# Altium integrated library ISSI SRAM Synchronous SRAM No-Wait(ZBT).IntLib: 1246 symbols (part 74 of 152)
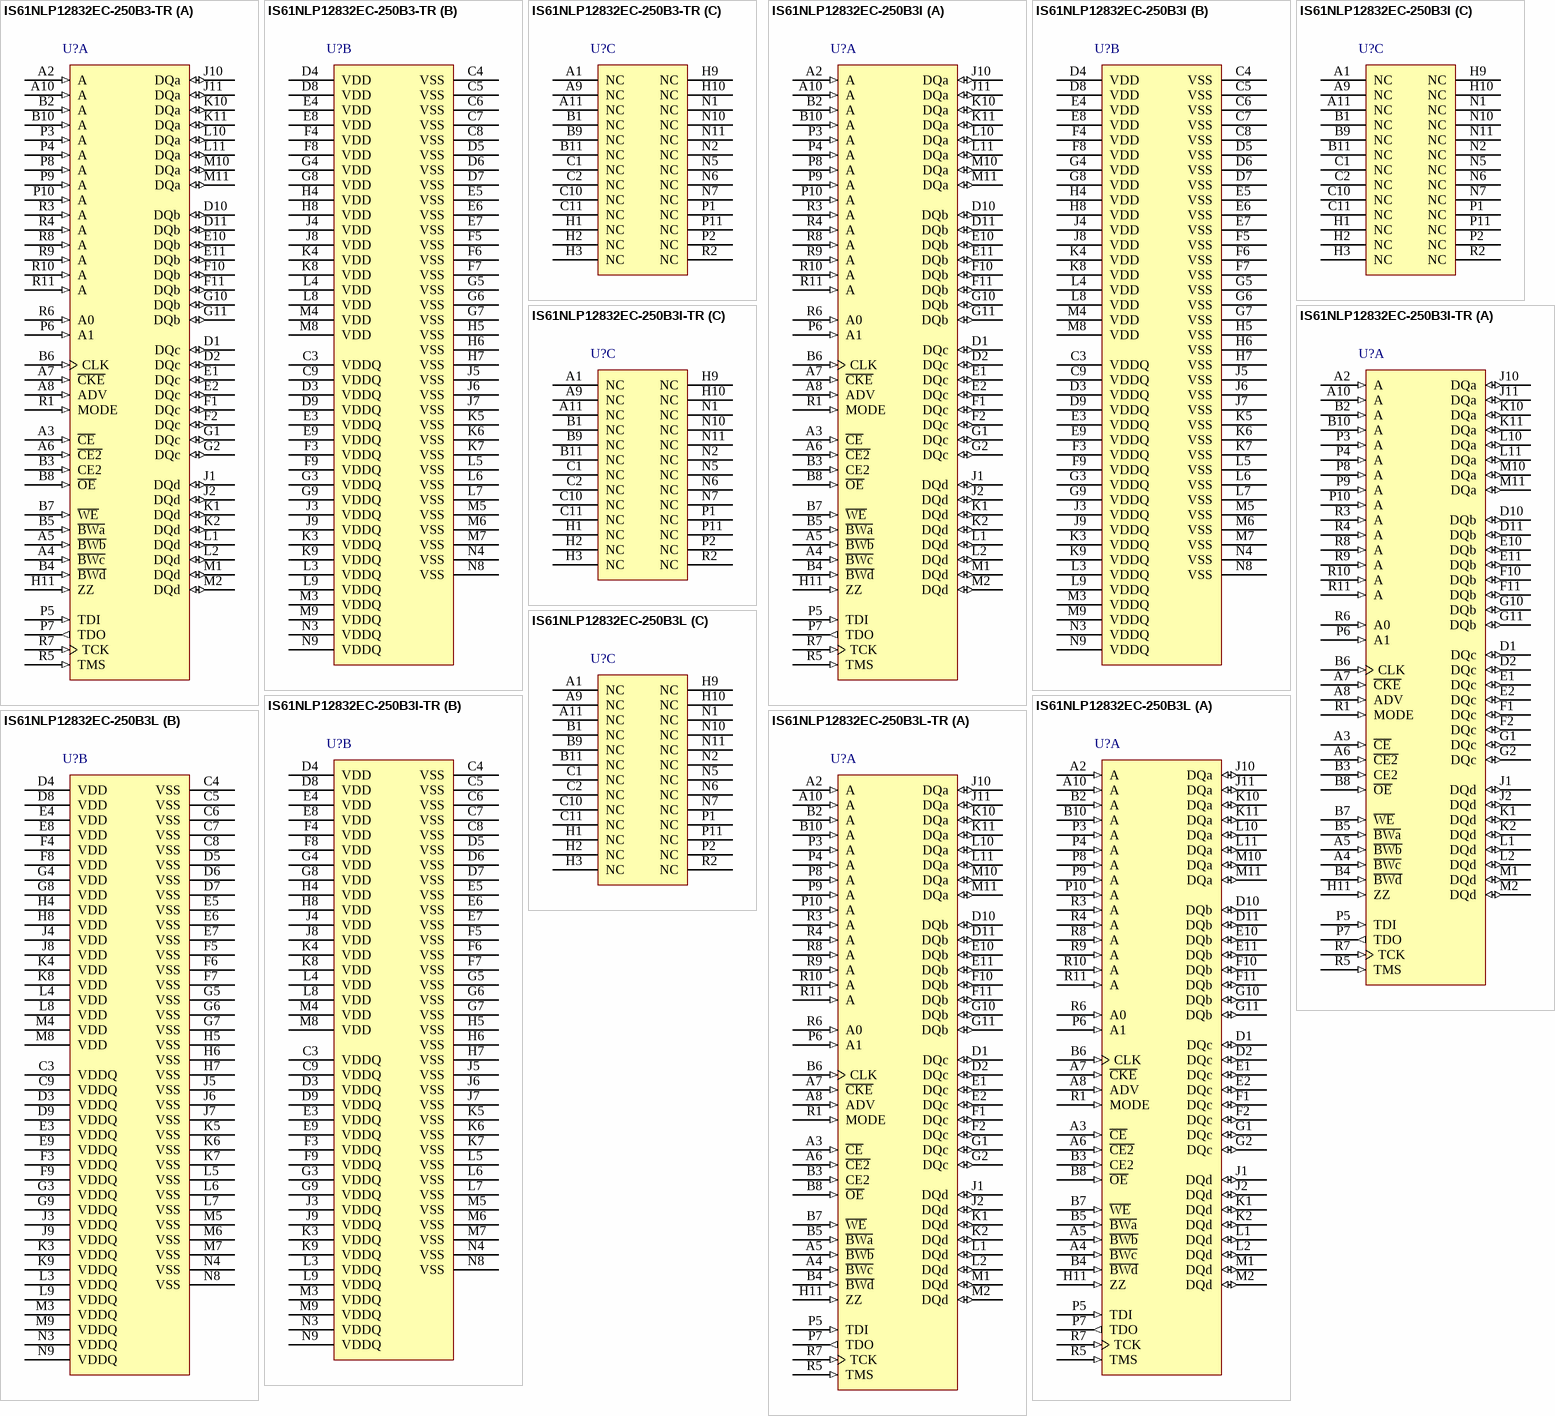
[diagram p275: symbols IS61NLP12832EC-250B3-TR to IS61NLP12832EC-250B3L-TR]

## IS61NLP12832EC-250B3I
designator U?
4 M Pipeline 'No Wait' State Bus Synchronous SRAM with ECC, 128 K x 32, -40 to 85 degC, 165-Pin BGA (TF-BGA-165); Manufacturer: Integrated Silicon Solution Inc (ISSI); PartNumber: IS61NLP12832EC-250B3I; Density: 4M; Packing: Tray / Tube; Vcc: 3.3 V; VccQ: 2.5 / 3.3 V; DatasheetVersion: Rev. A; PackageVersion: Rev. B, 08/2008; PackageReference: TF-BGA-165; PackageDescription: 165-Pin 13 x 15 mm TF-BGA, Pitch 1 mm; Organization: 128Kx32; Mounting Technology: Surface Mount; ComponentLink1Description: Manufacturer URL; ComponentLink1URL: http://www.issi.com/US/index.shtml; ComponentLink2Description: Datasheet; ComponentLink2URL: http://www.issi.com/WW/pdf/61-64NLP_NVP12832EC-12836EC-25618EC.pdf; ComponentLink3Description: Package Specification; ComponentLink3URL: http://www.issi.com/WW/pdf/61NLP_NVP25636A_51218A.pdf
footprint ISSI-TF-BGA-165-13000X15000DE (BGA, 165-Balls, Body 15x13mm, Pitch 1mm)
part A pins: A2 A (in) "Synchronous Address Inputs", A3 ~{CE} (in) "Synchronous Chip Enable", A4 ~{BWc} (in) "Synchronous Byte Write Inputs", A5 ~{BWb} (in) "Synchronous Byte Write Inputs", A6 ~{CE2} (in) "Synchronous Chip Enable", A7 ~{CKE} (in) "Clock Enable", A8 ADV (in) "Synchronous Advance/Load", A10 A (in) "Synchronous Address Inputs", B2 A (in) "Synchronous Address Inputs", B3 CE2 (in) "Synchronous Chip Enable", B4 ~{BWd} (in) "Synchronous Byte Write Inputs", B5 ~{BWa} (in) "Synchronous Byte Write Inputs", B6 CLK (in) "Synchronous Clock", B7 ~{WE} (in) "Synchronous Byte Write Enable", B8 ~{OE} (in) "Asynchronous Output Enable", B10 A (in) "Synchronous Address Inputs", D1 DQc (io) "Synchronous Data Inputs/Outputs", D2 DQc (io) "Synchronous Data Inputs/Outputs", D10 DQb (io) "Synchronous Data Inputs/Outputs", D11 DQb (io) "Synchronous Data Inputs/Outputs", E1 DQc (io) "Synchronous Data Inputs/Outputs", E2 DQc (io) "Synchronous Data Inputs/Outputs", E10 DQb (io) "Synchronous Data Inputs/Outputs", E11 DQb (io) "Synchronous Data Inputs/Outputs", F1 DQc (io) "Synchronous Data Inputs/Outputs", F2 DQc (io) "Synchronous Data Inputs/Outputs", F10 DQb (io) "Synchronous Data Inputs/Outputs", F11 DQb (io) "Synchronous Data Inputs/Outputs", G1 DQc (io) "Synchronous Data Inputs/Outputs", G2 DQc (io) "Synchronous Data Inputs/Outputs", G10 DQb (io) "Synchronous Data Inputs/Outputs", G11 DQb (io) "Synchronous Data Inputs/Outputs", H11 ZZ (in) "Asynchronous Power Sleep Mode", J1 DQd (io) "Synchronous Data Inputs/Outputs", J2 DQd (io) "Synchronous Data Inputs/Outputs", J10 DQa (io) "Synchronous Data Inputs/Outputs", J11 DQa (io) "Synchronous Data Inputs/Outputs", K1 DQd (io) "Synchronous Data Inputs/Outputs", K2 DQd (io) "Synchronous Data Inputs/Outputs", K10 DQa (io) "Synchronous Data Inputs/Outputs", K11 DQa (io) "Synchronous Data Inputs/Outputs", L1 DQd (io) "Synchronous Data Inputs/Outputs", L2 DQd (io) "Synchronous Data Inputs/Outputs", L10 DQa (io) "Synchronous Data Inputs/Outputs", L11 DQa (io) "Synchronous Data Inputs/Outputs", M1 DQd (io) "Synchronous Data Inputs/Outputs", M2 DQd (io) "Synchronous Data Inputs/Outputs", M10 DQa (io) "Synchronous Data Inputs/Outputs", M11 DQa (io) "Synchronous Data Inputs/Outputs", P3 A (in) "Synchronous Address Inputs", P4 A (in) "Synchronous Address Inputs", P5 TDI (in) "JTAG Pins", P6 A1 (in) "Synchronous Burst Address Inputs", P7 TDO (out) "JTAG Pins", P8 A (in) "Synchronous Address Inputs", P9 A (in) "Synchronous Address Inputs", P10 A (in) "Synchronous Address Inputs", R1 MODE (in) "Burst Sequence Selection", R3 A (in) "Synchronous Address Inputs", R4 A (in) "Synchronous Address Inputs", R5 TMS (in) "JTAG Pins", R6 A0 (in) "Synchronous Burst Address Inputs", R7 TCK (in) "JTAG Pins", R8 A (in) "Synchronous Address Inputs", R9 A (in) "Synchronous Address Inputs", R10 A (in) "Synchronous Address Inputs", R11 A (in) "Synchronous Address Inputs"
part B pins: C3 VDDQ (power) "I/O Power Supply", C4 VSS (power) "Ground", C5 VSS (power) "Ground", C6 VSS (power) "Ground", C7 VSS (power) "Ground", C8 VSS (power) "Ground", C9 VDDQ (power) "I/O Power Supply", D3 VDDQ (power) "I/O Power Supply", D4 VDD (power) "Power Supply", D5 VSS (power) "Ground", D6 VSS (power) "Ground", D7 VSS (power) "Ground", D8 VDD (power) "Power Supply", D9 VDDQ (power) "I/O Power Supply", E3 VDDQ (power) "I/O Power Supply", E4 VDD (power) "Power Supply", E5 VSS (power) "Ground", E6 VSS (power) "Ground", E7 VSS (power) "Ground", E8 VDD (power) "Power Supply", E9 VDDQ (power) "I/O Power Supply", F3 VDDQ (power) "I/O Power Supply", F4 VDD (power) "Power Supply", F5 VSS (power) "Ground", F6 VSS (power) "Ground", F7 VSS (power) "Ground", F8 VDD (power) "Power Supply", F9 VDDQ (power) "I/O Power Supply", G3 VDDQ (power) "I/O Power Supply", G4 VDD (power) "Power Supply", G5 VSS (power) "Ground", G6 VSS (power) "Ground", G7 VSS (power) "Ground", G8 VDD (power) "Power Supply", G9 VDDQ (power) "I/O Power Supply", H4 VDD (power) "Power Supply", H5 VSS (power) "Ground", H6 VSS (power) "Ground", H7 VSS (power) "Ground", H8 VDD (power) "Power Supply", J3 VDDQ (power) "I/O Power Supply", J4 VDD (power) "Power Supply", J5 VSS (power) "Ground", J6 VSS (power) "Ground", J7 VSS (power) "Ground", J8 VDD (power) "Power Supply", J9 VDDQ (power) "I/O Power Supply", K3 VDDQ (power) "I/O Power Supply", K4 VDD (power) "Power Supply", K5 VSS (power) "Ground", K6 VSS (power) "Ground", K7 VSS (power) "Ground", K8 VDD (power) "Power Supply", K9 VDDQ (power) "I/O Power Supply", L3 VDDQ (power) "I/O Power Supply", L4 VDD (power) "Power Supply", L5 VSS (power) "Ground", L6 VSS (power) "Ground", L7 VSS (power) "Ground", L8 VDD (power) "Power Supply", L9 VDDQ (power) "I/O Power Supply", M3 VDDQ (power) "I/O Power Supply", M4 VDD (power) "Power Supply", M5 VSS (power) "Ground", M6 VSS (power) "Ground", M7 VSS (power) "Ground", M8 VDD (power) "Power Supply", M9 VDDQ (power) "I/O Power Supply", N3 VDDQ (power) "I/O Power Supply", N4 VSS (power) "Ground", N8 VSS (power) "Ground", N9 VDDQ (power) "I/O Power Supply"
part C pins: A1 NC "No Connect", A9 NC "No Connect", A11 NC "No Connect", B1 NC "No Connect", B9 NC "No Connect", B11 NC "No Connect", C1 NC "No Connect", C2 NC "No Connect", C10 NC "No Connect", C11 NC "No Connect", H1 NC "No Connect", H2 NC "No Connect", H3 NC "No Connect", H9 NC "No Connect", H10 NC "No Connect", N1 NC "No Connect", N2 NC "No Connect", N5 NC "No Connect", N6 NC "No Connect", N7 NC "No Connect", N10 NC "No Connect", N11 NC "No Connect", P1 NC "No Connect", P2 NC "No Connect", P11 NC "No Connect", R2 NC "No Connect"

## IS61NLP12832EC-250B3I-TR
designator U?
4 M Pipeline 'No Wait' State Bus Synchronous SRAM with ECC, 128 K x 32, -40 to 85 degC, 165-Pin BGA (TF-BGA-165); Manufacturer: Integrated Silicon Solution Inc (ISSI); PartNumber: IS61NLP12832EC-250B3I-TR; Density: 4M; Packing: Tape & Reel; Vcc: 3.3 V; VccQ: 2.5 / 3.3 V; DatasheetVersion: Rev. A; PackageVersion: Rev. B, 08/2008; PackageReference: TF-BGA-165; PackageDescription: 165-Pin 13 x 15 mm TF-BGA, Pitch 1 mm; Organization: 128Kx32; Mounting Technology: Surface Mount; ComponentLink1Description: Manufacturer URL; ComponentLink1URL: http://www.issi.com/US/index.shtml; ComponentLink2Description: Datasheet; ComponentLink2URL: http://www.issi.com/WW/pdf/61-64NLP_NVP12832EC-12836EC-25618EC.pdf; ComponentLink3Description: Package Specification; ComponentLink3URL: http://www.issi.com/WW/pdf/61NLP_NVP25636A_51218A.pdf
footprint ISSI-TF-BGA-165-13000X15000DE (BGA, 165-Balls, Body 15x13mm, Pitch 1mm)
part A pins: A2 A (in) "Synchronous Address Inputs", A3 ~{CE} (in) "Synchronous Chip Enable", A4 ~{BWc} (in) "Synchronous Byte Write Inputs", A5 ~{BWb} (in) "Synchronous Byte Write Inputs", A6 ~{CE2} (in) "Synchronous Chip Enable", A7 ~{CKE} (in) "Clock Enable", A8 ADV (in) "Synchronous Advance/Load", A10 A (in) "Synchronous Address Inputs", B2 A (in) "Synchronous Address Inputs", B3 CE2 (in) "Synchronous Chip Enable", B4 ~{BWd} (in) "Synchronous Byte Write Inputs", B5 ~{BWa} (in) "Synchronous Byte Write Inputs", B6 CLK (in) "Synchronous Clock", B7 ~{WE} (in) "Synchronous Byte Write Enable", B8 ~{OE} (in) "Asynchronous Output Enable", B10 A (in) "Synchronous Address Inputs", D1 DQc (io) "Synchronous Data Inputs/Outputs", D2 DQc (io) "Synchronous Data Inputs/Outputs", D10 DQb (io) "Synchronous Data Inputs/Outputs", D11 DQb (io) "Synchronous Data Inputs/Outputs", E1 DQc (io) "Synchronous Data Inputs/Outputs", E2 DQc (io) "Synchronous Data Inputs/Outputs", E10 DQb (io) "Synchronous Data Inputs/Outputs", E11 DQb (io) "Synchronous Data Inputs/Outputs", F1 DQc (io) "Synchronous Data Inputs/Outputs", F2 DQc (io) "Synchronous Data Inputs/Outputs", F10 DQb (io) "Synchronous Data Inputs/Outputs", F11 DQb (io) "Synchronous Data Inputs/Outputs", G1 DQc (io) "Synchronous Data Inputs/Outputs", G2 DQc (io) "Synchronous Data Inputs/Outputs", G10 DQb (io) "Synchronous Data Inputs/Outputs", G11 DQb (io) "Synchronous Data Inputs/Outputs", H11 ZZ (in) "Asynchronous Power Sleep Mode", J1 DQd (io) "Synchronous Data Inputs/Outputs", J2 DQd (io) "Synchronous Data Inputs/Outputs", J10 DQa (io) "Synchronous Data Inputs/Outputs", J11 DQa (io) "Synchronous Data Inputs/Outputs", K1 DQd (io) "Synchronous Data Inputs/Outputs", K2 DQd (io) "Synchronous Data Inputs/Outputs", K10 DQa (io) "Synchronous Data Inputs/Outputs", K11 DQa (io) "Synchronous Data Inputs/Outputs", L1 DQd (io) "Synchronous Data Inputs/Outputs", L2 DQd (io) "Synchronous Data Inputs/Outputs", L10 DQa (io) "Synchronous Data Inputs/Outputs", L11 DQa (io) "Synchronous Data Inputs/Outputs", M1 DQd (io) "Synchronous Data Inputs/Outputs", M2 DQd (io) "Synchronous Data Inputs/Outputs", M10 DQa (io) "Synchronous Data Inputs/Outputs", M11 DQa (io) "Synchronous Data Inputs/Outputs", P3 A (in) "Synchronous Address Inputs", P4 A (in) "Synchronous Address Inputs", P5 TDI (in) "JTAG Pins", P6 A1 (in) "Synchronous Burst Address Inputs", P7 TDO (out) "JTAG Pins", P8 A (in) "Synchronous Address Inputs", P9 A (in) "Synchronous Address Inputs", P10 A (in) "Synchronous Address Inputs", R1 MODE (in) "Burst Sequence Selection", R3 A (in) "Synchronous Address Inputs", R4 A (in) "Synchronous Address Inputs", R5 TMS (in) "JTAG Pins", R6 A0 (in) "Synchronous Burst Address Inputs", R7 TCK (in) "JTAG Pins", R8 A (in) "Synchronous Address Inputs", R9 A (in) "Synchronous Address Inputs", R10 A (in) "Synchronous Address Inputs", R11 A (in) "Synchronous Address Inputs"
part B pins: C3 VDDQ (power) "I/O Power Supply", C4 VSS (power) "Ground", C5 VSS (power) "Ground", C6 VSS (power) "Ground", C7 VSS (power) "Ground", C8 VSS (power) "Ground", C9 VDDQ (power) "I/O Power Supply", D3 VDDQ (power) "I/O Power Supply", D4 VDD (power) "Power Supply", D5 VSS (power) "Ground", D6 VSS (power) "Ground", D7 VSS (power) "Ground", D8 VDD (power) "Power Supply", D9 VDDQ (power) "I/O Power Supply", E3 VDDQ (power) "I/O Power Supply", E4 VDD (power) "Power Supply", E5 VSS (power) "Ground", E6 VSS (power) "Ground", E7 VSS (power) "Ground", E8 VDD (power) "Power Supply", E9 VDDQ (power) "I/O Power Supply", F3 VDDQ (power) "I/O Power Supply", F4 VDD (power) "Power Supply", F5 VSS (power) "Ground", F6 VSS (power) "Ground", F7 VSS (power) "Ground", F8 VDD (power) "Power Supply", F9 VDDQ (power) "I/O Power Supply", G3 VDDQ (power) "I/O Power Supply", G4 VDD (power) "Power Supply", G5 VSS (power) "Ground", G6 VSS (power) "Ground", G7 VSS (power) "Ground", G8 VDD (power) "Power Supply", G9 VDDQ (power) "I/O Power Supply", H4 VDD (power) "Power Supply", H5 VSS (power) "Ground", H6 VSS (power) "Ground", H7 VSS (power) "Ground", H8 VDD (power) "Power Supply", J3 VDDQ (power) "I/O Power Supply", J4 VDD (power) "Power Supply", J5 VSS (power) "Ground", J6 VSS (power) "Ground", J7 VSS (power) "Ground", J8 VDD (power) "Power Supply", J9 VDDQ (power) "I/O Power Supply", K3 VDDQ (power) "I/O Power Supply", K4 VDD (power) "Power Supply", K5 VSS (power) "Ground", K6 VSS (power) "Ground", K7 VSS (power) "Ground", K8 VDD (power) "Power Supply", K9 VDDQ (power) "I/O Power Supply", L3 VDDQ (power) "I/O Power Supply", L4 VDD (power) "Power Supply", L5 VSS (power) "Ground", L6 VSS (power) "Ground", L7 VSS (power) "Ground", L8 VDD (power) "Power Supply", L9 VDDQ (power) "I/O Power Supply", M3 VDDQ (power) "I/O Power Supply", M4 VDD (power) "Power Supply", M5 VSS (power) "Ground", M6 VSS (power) "Ground", M7 VSS (power) "Ground", M8 VDD (power) "Power Supply", M9 VDDQ (power) "I/O Power Supply", N3 VDDQ (power) "I/O Power Supply", N4 VSS (power) "Ground", N8 VSS (power) "Ground", N9 VDDQ (power) "I/O Power Supply"
part C pins: A1 NC "No Connect", A9 NC "No Connect", A11 NC "No Connect", B1 NC "No Connect", B9 NC "No Connect", B11 NC "No Connect", C1 NC "No Connect", C2 NC "No Connect", C10 NC "No Connect", C11 NC "No Connect", H1 NC "No Connect", H2 NC "No Connect", H3 NC "No Connect", H9 NC "No Connect", H10 NC "No Connect", N1 NC "No Connect", N2 NC "No Connect", N5 NC "No Connect", N6 NC "No Connect", N7 NC "No Connect", N10 NC "No Connect", N11 NC "No Connect", P1 NC "No Connect", P2 NC "No Connect", P11 NC "No Connect", R2 NC "No Connect"

## IS61NLP12832EC-250B3L
designator U?
4 M Pipeline 'No Wait' State Bus Synchronous SRAM with ECC, 128 K x 32, 0 to 70 degC, 165-Pin BGA (TF-BGA-165), Pb-Free; Manufacturer: Integrated Silicon Solution Inc (ISSI); PartNumber: IS61NLP12832EC-250B3L; Density: 4M; Packing: Tray / Tube; Vcc: 3.3 V; VccQ: 2.5 / 3.3 V; DatasheetVersion: Rev. A; PackageVersion: Rev. B, 08/2008; PackageReference: TF-BGA-165; PackageDescription: 165-Pin 13 x 15 mm TF-BGA, Pitch 1 mm; Organization: 128Kx32; RoHS: Pb-Free; Mounting Technology: Surface Mount; ComponentLink1Description: Manufacturer URL; ComponentLink1URL: http://www.issi.com/US/index.shtml; ComponentLink2Description: Datasheet; ComponentLink2URL: http://www.issi.com/WW/pdf/61-64NLP_NVP12832EC-12836EC-25618EC.pdf; ComponentLink3Description: Package Specification; ComponentLink3URL: http://www.issi.com/WW/pdf/61NLP_NVP25636A_51218A.pdf
footprint ISSI-TF-BGA-165-13000X15000DE (BGA, 165-Balls, Body 15x13mm, Pitch 1mm)
part A pins: A2 A (in) "Synchronous Address Inputs", A3 ~{CE} (in) "Synchronous Chip Enable", A4 ~{BWc} (in) "Synchronous Byte Write Inputs", A5 ~{BWb} (in) "Synchronous Byte Write Inputs", A6 ~{CE2} (in) "Synchronous Chip Enable", A7 ~{CKE} (in) "Clock Enable", A8 ADV (in) "Synchronous Advance/Load", A10 A (in) "Synchronous Address Inputs", B2 A (in) "Synchronous Address Inputs", B3 CE2 (in) "Synchronous Chip Enable", B4 ~{BWd} (in) "Synchronous Byte Write Inputs", B5 ~{BWa} (in) "Synchronous Byte Write Inputs", B6 CLK (in) "Synchronous Clock", B7 ~{WE} (in) "Synchronous Byte Write Enable", B8 ~{OE} (in) "Asynchronous Output Enable", B10 A (in) "Synchronous Address Inputs", D1 DQc (io) "Synchronous Data Inputs/Outputs", D2 DQc (io) "Synchronous Data Inputs/Outputs", D10 DQb (io) "Synchronous Data Inputs/Outputs", D11 DQb (io) "Synchronous Data Inputs/Outputs", E1 DQc (io) "Synchronous Data Inputs/Outputs", E2 DQc (io) "Synchronous Data Inputs/Outputs", E10 DQb (io) "Synchronous Data Inputs/Outputs", E11 DQb (io) "Synchronous Data Inputs/Outputs", F1 DQc (io) "Synchronous Data Inputs/Outputs", F2 DQc (io) "Synchronous Data Inputs/Outputs", F10 DQb (io) "Synchronous Data Inputs/Outputs", F11 DQb (io) "Synchronous Data Inputs/Outputs", G1 DQc (io) "Synchronous Data Inputs/Outputs", G2 DQc (io) "Synchronous Data Inputs/Outputs", G10 DQb (io) "Synchronous Data Inputs/Outputs", G11 DQb (io) "Synchronous Data Inputs/Outputs", H11 ZZ (in) "Asynchronous Power Sleep Mode", J1 DQd (io) "Synchronous Data Inputs/Outputs", J2 DQd (io) "Synchronous Data Inputs/Outputs", J10 DQa (io) "Synchronous Data Inputs/Outputs", J11 DQa (io) "Synchronous Data Inputs/Outputs", K1 DQd (io) "Synchronous Data Inputs/Outputs", K2 DQd (io) "Synchronous Data Inputs/Outputs", K10 DQa (io) "Synchronous Data Inputs/Outputs", K11 DQa (io) "Synchronous Data Inputs/Outputs", L1 DQd (io) "Synchronous Data Inputs/Outputs", L2 DQd (io) "Synchronous Data Inputs/Outputs", L10 DQa (io) "Synchronous Data Inputs/Outputs", L11 DQa (io) "Synchronous Data Inputs/Outputs", M1 DQd (io) "Synchronous Data Inputs/Outputs", M2 DQd (io) "Synchronous Data Inputs/Outputs", M10 DQa (io) "Synchronous Data Inputs/Outputs", M11 DQa (io) "Synchronous Data Inputs/Outputs", P3 A (in) "Synchronous Address Inputs", P4 A (in) "Synchronous Address Inputs", P5 TDI (in) "JTAG Pins", P6 A1 (in) "Synchronous Burst Address Inputs", P7 TDO (out) "JTAG Pins", P8 A (in) "Synchronous Address Inputs", P9 A (in) "Synchronous Address Inputs", P10 A (in) "Synchronous Address Inputs", R1 MODE (in) "Burst Sequence Selection", R3 A (in) "Synchronous Address Inputs", R4 A (in) "Synchronous Address Inputs", R5 TMS (in) "JTAG Pins", R6 A0 (in) "Synchronous Burst Address Inputs", R7 TCK (in) "JTAG Pins", R8 A (in) "Synchronous Address Inputs", R9 A (in) "Synchronous Address Inputs", R10 A (in) "Synchronous Address Inputs", R11 A (in) "Synchronous Address Inputs"
part B pins: C3 VDDQ (power) "I/O Power Supply", C4 VSS (power) "Ground", C5 VSS (power) "Ground", C6 VSS (power) "Ground", C7 VSS (power) "Ground", C8 VSS (power) "Ground", C9 VDDQ (power) "I/O Power Supply", D3 VDDQ (power) "I/O Power Supply", D4 VDD (power) "Power Supply", D5 VSS (power) "Ground", D6 VSS (power) "Ground", D7 VSS (power) "Ground", D8 VDD (power) "Power Supply", D9 VDDQ (power) "I/O Power Supply", E3 VDDQ (power) "I/O Power Supply", E4 VDD (power) "Power Supply", E5 VSS (power) "Ground", E6 VSS (power) "Ground", E7 VSS (power) "Ground", E8 VDD (power) "Power Supply", E9 VDDQ (power) "I/O Power Supply", F3 VDDQ (power) "I/O Power Supply", F4 VDD (power) "Power Supply", F5 VSS (power) "Ground", F6 VSS (power) "Ground", F7 VSS (power) "Ground", F8 VDD (power) "Power Supply", F9 VDDQ (power) "I/O Power Supply", G3 VDDQ (power) "I/O Power Supply", G4 VDD (power) "Power Supply", G5 VSS (power) "Ground", G6 VSS (power) "Ground", G7 VSS (power) "Ground", G8 VDD (power) "Power Supply", G9 VDDQ (power) "I/O Power Supply", H4 VDD (power) "Power Supply", H5 VSS (power) "Ground", H6 VSS (power) "Ground", H7 VSS (power) "Ground", H8 VDD (power) "Power Supply", J3 VDDQ (power) "I/O Power Supply", J4 VDD (power) "Power Supply", J5 VSS (power) "Ground", J6 VSS (power) "Ground", J7 VSS (power) "Ground", J8 VDD (power) "Power Supply", J9 VDDQ (power) "I/O Power Supply", K3 VDDQ (power) "I/O Power Supply", K4 VDD (power) "Power Supply", K5 VSS (power) "Ground", K6 VSS (power) "Ground", K7 VSS (power) "Ground", K8 VDD (power) "Power Supply", K9 VDDQ (power) "I/O Power Supply", L3 VDDQ (power) "I/O Power Supply", L4 VDD (power) "Power Supply", L5 VSS (power) "Ground", L6 VSS (power) "Ground", L7 VSS (power) "Ground", L8 VDD (power) "Power Supply", L9 VDDQ (power) "I/O Power Supply", M3 VDDQ (power) "I/O Power Supply", M4 VDD (power) "Power Supply", M5 VSS (power) "Ground", M6 VSS (power) "Ground", M7 VSS (power) "Ground", M8 VDD (power) "Power Supply", M9 VDDQ (power) "I/O Power Supply", N3 VDDQ (power) "I/O Power Supply", N4 VSS (power) "Ground", N8 VSS (power) "Ground", N9 VDDQ (power) "I/O Power Supply"
part C pins: A1 NC "No Connect", A9 NC "No Connect", A11 NC "No Connect", B1 NC "No Connect", B9 NC "No Connect", B11 NC "No Connect", C1 NC "No Connect", C2 NC "No Connect", C10 NC "No Connect", C11 NC "No Connect", H1 NC "No Connect", H2 NC "No Connect", H3 NC "No Connect", H9 NC "No Connect", H10 NC "No Connect", N1 NC "No Connect", N2 NC "No Connect", N5 NC "No Connect", N6 NC "No Connect", N7 NC "No Connect", N10 NC "No Connect", N11 NC "No Connect", P1 NC "No Connect", P2 NC "No Connect", P11 NC "No Connect", R2 NC "No Connect"

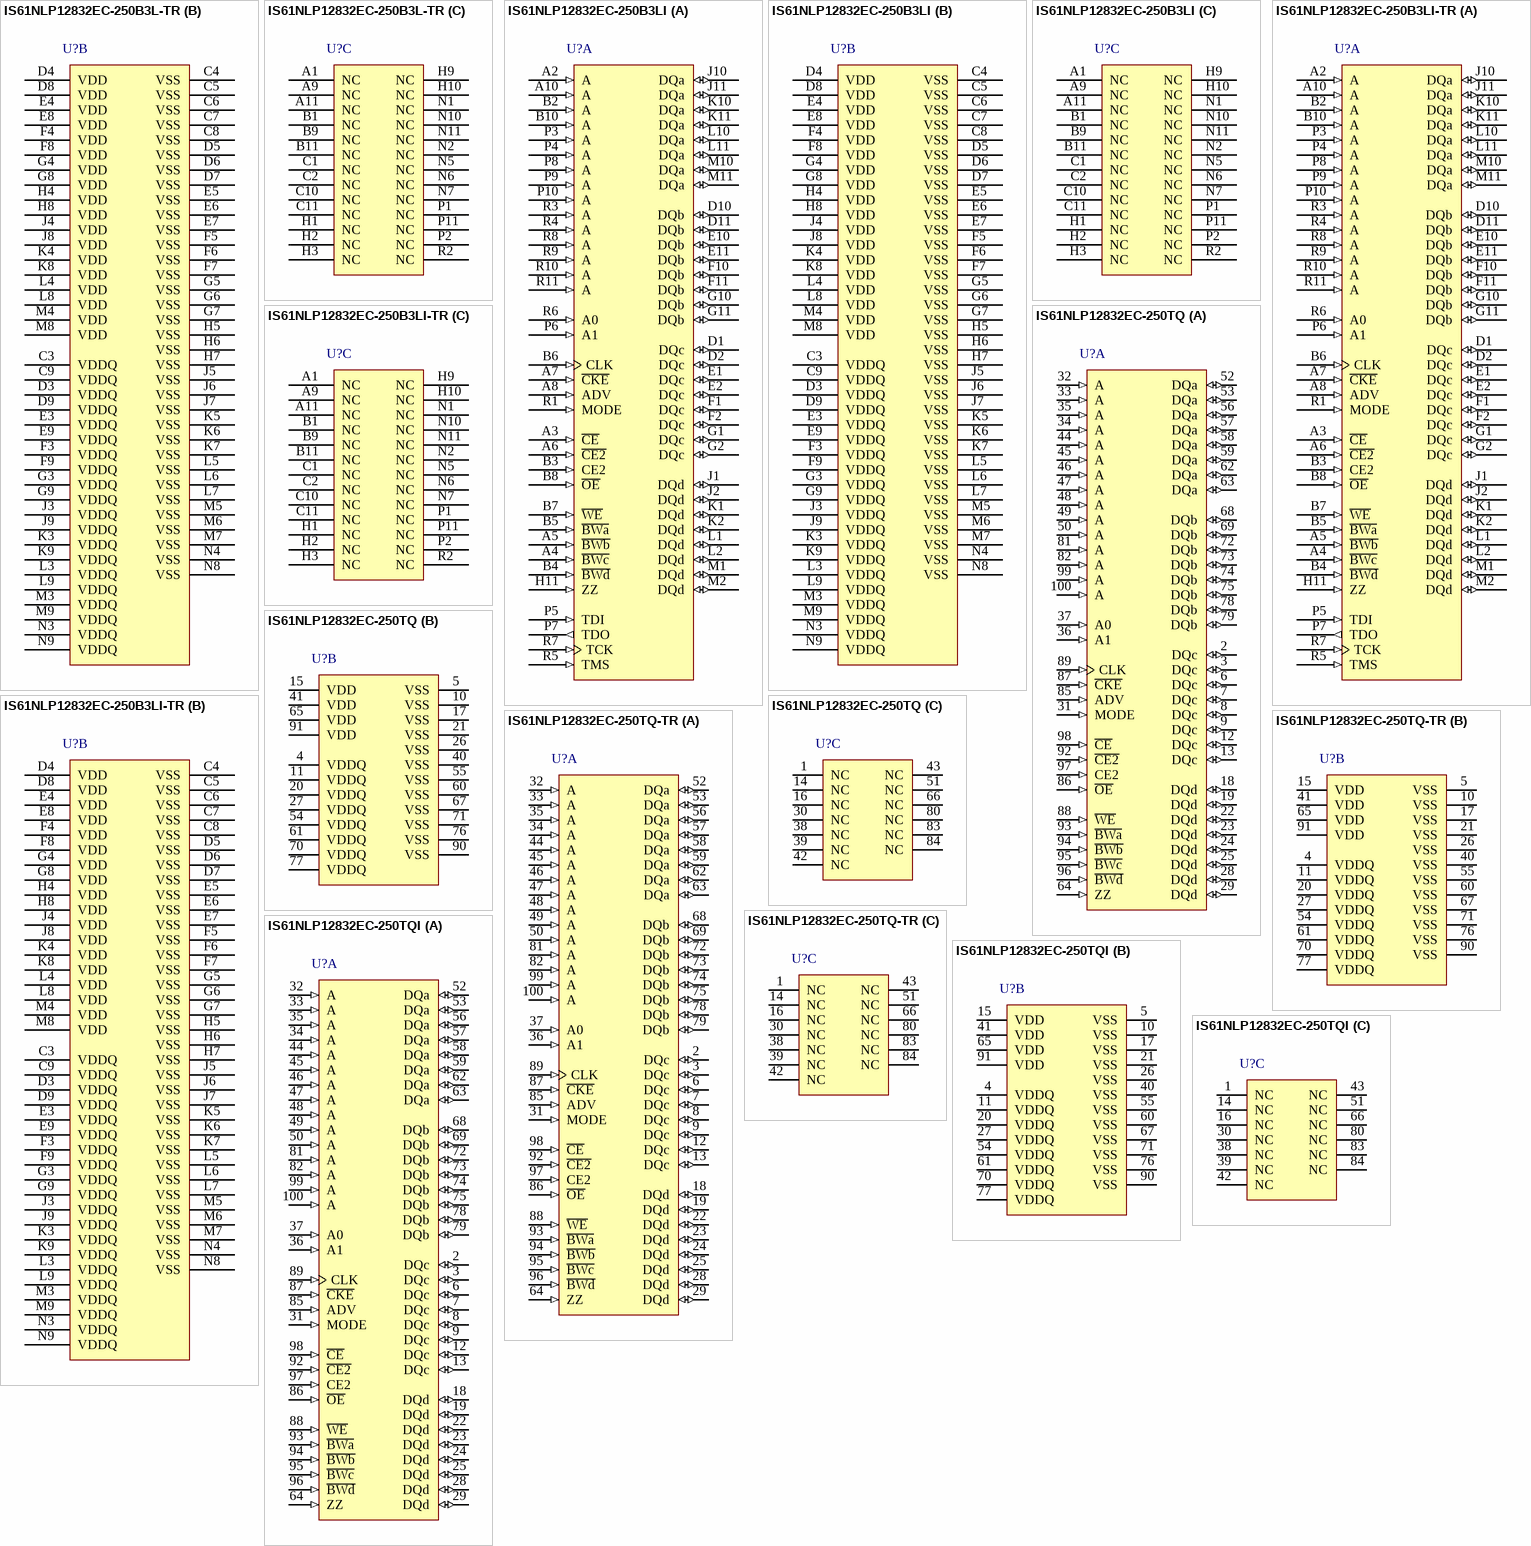
[diagram p73: symbols IS61NLP12832EC-250B3L-TR to IS61NLP12832EC-250TQI]

## IS61NLP12832EC-250B3L-TR
designator U?
4 M Pipeline 'No Wait' State Bus Synchronous SRAM with ECC, 128 K x 32, 0 to 70 degC, 165-Pin BGA (TF-BGA-165), Pb-Free; Manufacturer: Integrated Silicon Solution Inc (ISSI); PartNumber: IS61NLP12832EC-250B3L-TR; Density: 4M; Packing: Tape & Reel; Vcc: 3.3 V; VccQ: 2.5 / 3.3 V; DatasheetVersion: Rev. A; PackageVersion: Rev. B, 08/2008; PackageReference: TF-BGA-165; PackageDescription: 165-Pin 13 x 15 mm TF-BGA, Pitch 1 mm; Organization: 128Kx32; RoHS: Pb-Free; Mounting Technology: Surface Mount; ComponentLink1Description: Manufacturer URL; ComponentLink1URL: http://www.issi.com/US/index.shtml; ComponentLink2Description: Datasheet; ComponentLink2URL: http://www.issi.com/WW/pdf/61-64NLP_NVP12832EC-12836EC-25618EC.pdf; ComponentLink3Description: Package Specification; ComponentLink3URL: http://www.issi.com/WW/pdf/61NLP_NVP25636A_51218A.pdf
footprint ISSI-TF-BGA-165-13000X15000DE (BGA, 165-Balls, Body 15x13mm, Pitch 1mm)
part A pins: A2 A (in) "Synchronous Address Inputs", A3 ~{CE} (in) "Synchronous Chip Enable", A4 ~{BWc} (in) "Synchronous Byte Write Inputs", A5 ~{BWb} (in) "Synchronous Byte Write Inputs", A6 ~{CE2} (in) "Synchronous Chip Enable", A7 ~{CKE} (in) "Clock Enable", A8 ADV (in) "Synchronous Advance/Load", A10 A (in) "Synchronous Address Inputs", B2 A (in) "Synchronous Address Inputs", B3 CE2 (in) "Synchronous Chip Enable", B4 ~{BWd} (in) "Synchronous Byte Write Inputs", B5 ~{BWa} (in) "Synchronous Byte Write Inputs", B6 CLK (in) "Synchronous Clock", B7 ~{WE} (in) "Synchronous Byte Write Enable", B8 ~{OE} (in) "Asynchronous Output Enable", B10 A (in) "Synchronous Address Inputs", D1 DQc (io) "Synchronous Data Inputs/Outputs", D2 DQc (io) "Synchronous Data Inputs/Outputs", D10 DQb (io) "Synchronous Data Inputs/Outputs", D11 DQb (io) "Synchronous Data Inputs/Outputs", E1 DQc (io) "Synchronous Data Inputs/Outputs", E2 DQc (io) "Synchronous Data Inputs/Outputs", E10 DQb (io) "Synchronous Data Inputs/Outputs", E11 DQb (io) "Synchronous Data Inputs/Outputs", F1 DQc (io) "Synchronous Data Inputs/Outputs", F2 DQc (io) "Synchronous Data Inputs/Outputs", F10 DQb (io) "Synchronous Data Inputs/Outputs", F11 DQb (io) "Synchronous Data Inputs/Outputs", G1 DQc (io) "Synchronous Data Inputs/Outputs", G2 DQc (io) "Synchronous Data Inputs/Outputs", G10 DQb (io) "Synchronous Data Inputs/Outputs", G11 DQb (io) "Synchronous Data Inputs/Outputs", H11 ZZ (in) "Asynchronous Power Sleep Mode", J1 DQd (io) "Synchronous Data Inputs/Outputs", J2 DQd (io) "Synchronous Data Inputs/Outputs", J10 DQa (io) "Synchronous Data Inputs/Outputs", J11 DQa (io) "Synchronous Data Inputs/Outputs", K1 DQd (io) "Synchronous Data Inputs/Outputs", K2 DQd (io) "Synchronous Data Inputs/Outputs", K10 DQa (io) "Synchronous Data Inputs/Outputs", K11 DQa (io) "Synchronous Data Inputs/Outputs", L1 DQd (io) "Synchronous Data Inputs/Outputs", L2 DQd (io) "Synchronous Data Inputs/Outputs", L10 DQa (io) "Synchronous Data Inputs/Outputs", L11 DQa (io) "Synchronous Data Inputs/Outputs", M1 DQd (io) "Synchronous Data Inputs/Outputs", M2 DQd (io) "Synchronous Data Inputs/Outputs", M10 DQa (io) "Synchronous Data Inputs/Outputs", M11 DQa (io) "Synchronous Data Inputs/Outputs", P3 A (in) "Synchronous Address Inputs", P4 A (in) "Synchronous Address Inputs", P5 TDI (in) "JTAG Pins", P6 A1 (in) "Synchronous Burst Address Inputs", P7 TDO (out) "JTAG Pins", P8 A (in) "Synchronous Address Inputs", P9 A (in) "Synchronous Address Inputs", P10 A (in) "Synchronous Address Inputs", R1 MODE (in) "Burst Sequence Selection", R3 A (in) "Synchronous Address Inputs", R4 A (in) "Synchronous Address Inputs", R5 TMS (in) "JTAG Pins", R6 A0 (in) "Synchronous Burst Address Inputs", R7 TCK (in) "JTAG Pins", R8 A (in) "Synchronous Address Inputs", R9 A (in) "Synchronous Address Inputs", R10 A (in) "Synchronous Address Inputs", R11 A (in) "Synchronous Address Inputs"
part B pins: C3 VDDQ (power) "I/O Power Supply", C4 VSS (power) "Ground", C5 VSS (power) "Ground", C6 VSS (power) "Ground", C7 VSS (power) "Ground", C8 VSS (power) "Ground", C9 VDDQ (power) "I/O Power Supply", D3 VDDQ (power) "I/O Power Supply", D4 VDD (power) "Power Supply", D5 VSS (power) "Ground", D6 VSS (power) "Ground", D7 VSS (power) "Ground", D8 VDD (power) "Power Supply", D9 VDDQ (power) "I/O Power Supply", E3 VDDQ (power) "I/O Power Supply", E4 VDD (power) "Power Supply", E5 VSS (power) "Ground", E6 VSS (power) "Ground", E7 VSS (power) "Ground", E8 VDD (power) "Power Supply", E9 VDDQ (power) "I/O Power Supply", F3 VDDQ (power) "I/O Power Supply", F4 VDD (power) "Power Supply", F5 VSS (power) "Ground", F6 VSS (power) "Ground", F7 VSS (power) "Ground", F8 VDD (power) "Power Supply", F9 VDDQ (power) "I/O Power Supply", G3 VDDQ (power) "I/O Power Supply", G4 VDD (power) "Power Supply", G5 VSS (power) "Ground", G6 VSS (power) "Ground", G7 VSS (power) "Ground", G8 VDD (power) "Power Supply", G9 VDDQ (power) "I/O Power Supply", H4 VDD (power) "Power Supply", H5 VSS (power) "Ground", H6 VSS (power) "Ground", H7 VSS (power) "Ground", H8 VDD (power) "Power Supply", J3 VDDQ (power) "I/O Power Supply", J4 VDD (power) "Power Supply", J5 VSS (power) "Ground", J6 VSS (power) "Ground", J7 VSS (power) "Ground", J8 VDD (power) "Power Supply", J9 VDDQ (power) "I/O Power Supply", K3 VDDQ (power) "I/O Power Supply", K4 VDD (power) "Power Supply", K5 VSS (power) "Ground", K6 VSS (power) "Ground", K7 VSS (power) "Ground", K8 VDD (power) "Power Supply", K9 VDDQ (power) "I/O Power Supply", L3 VDDQ (power) "I/O Power Supply", L4 VDD (power) "Power Supply", L5 VSS (power) "Ground", L6 VSS (power) "Ground", L7 VSS (power) "Ground", L8 VDD (power) "Power Supply", L9 VDDQ (power) "I/O Power Supply", M3 VDDQ (power) "I/O Power Supply", M4 VDD (power) "Power Supply", M5 VSS (power) "Ground", M6 VSS (power) "Ground", M7 VSS (power) "Ground", M8 VDD (power) "Power Supply", M9 VDDQ (power) "I/O Power Supply", N3 VDDQ (power) "I/O Power Supply", N4 VSS (power) "Ground", N8 VSS (power) "Ground", N9 VDDQ (power) "I/O Power Supply"
part C pins: A1 NC "No Connect", A9 NC "No Connect", A11 NC "No Connect", B1 NC "No Connect", B9 NC "No Connect", B11 NC "No Connect", C1 NC "No Connect", C2 NC "No Connect", C10 NC "No Connect", C11 NC "No Connect", H1 NC "No Connect", H2 NC "No Connect", H3 NC "No Connect", H9 NC "No Connect", H10 NC "No Connect", N1 NC "No Connect", N2 NC "No Connect", N5 NC "No Connect", N6 NC "No Connect", N7 NC "No Connect", N10 NC "No Connect", N11 NC "No Connect", P1 NC "No Connect", P2 NC "No Connect", P11 NC "No Connect", R2 NC "No Connect"

## IS61NLP12832EC-250B3LI
designator U?
4 M Pipeline 'No Wait' State Bus Synchronous SRAM with ECC, 128 K x 32, -40 to 85 degC, 165-Pin BGA (TF-BGA-165), Pb-Free; Manufacturer: Integrated Silicon Solution Inc (ISSI); PartNumber: IS61NLP12832EC-250B3LI; Density: 4M; Packing: Tray / Tube; Vcc: 3.3 V; VccQ: 2.5 / 3.3 V; DatasheetVersion: Rev. A; PackageVersion: Rev. B, 08/2008; PackageReference: TF-BGA-165; PackageDescription: 165-Pin 13 x 15 mm TF-BGA, Pitch 1 mm; Organization: 128Kx32; RoHS: Pb-Free; Mounting Technology: Surface Mount; ComponentLink1Description: Manufacturer URL; ComponentLink1URL: http://www.issi.com/US/index.shtml; ComponentLink2Description: Datasheet; ComponentLink2URL: http://www.issi.com/WW/pdf/61-64NLP_NVP12832EC-12836EC-25618EC.pdf; ComponentLink3Description: Package Specification; ComponentLink3URL: http://www.issi.com/WW/pdf/61NLP_NVP25636A_51218A.pdf
footprint ISSI-TF-BGA-165-13000X15000DE (BGA, 165-Balls, Body 15x13mm, Pitch 1mm)
part A pins: A2 A (in) "Synchronous Address Inputs", A3 ~{CE} (in) "Synchronous Chip Enable", A4 ~{BWc} (in) "Synchronous Byte Write Inputs", A5 ~{BWb} (in) "Synchronous Byte Write Inputs", A6 ~{CE2} (in) "Synchronous Chip Enable", A7 ~{CKE} (in) "Clock Enable", A8 ADV (in) "Synchronous Advance/Load", A10 A (in) "Synchronous Address Inputs", B2 A (in) "Synchronous Address Inputs", B3 CE2 (in) "Synchronous Chip Enable", B4 ~{BWd} (in) "Synchronous Byte Write Inputs", B5 ~{BWa} (in) "Synchronous Byte Write Inputs", B6 CLK (in) "Synchronous Clock", B7 ~{WE} (in) "Synchronous Byte Write Enable", B8 ~{OE} (in) "Asynchronous Output Enable", B10 A (in) "Synchronous Address Inputs", D1 DQc (io) "Synchronous Data Inputs/Outputs", D2 DQc (io) "Synchronous Data Inputs/Outputs", D10 DQb (io) "Synchronous Data Inputs/Outputs", D11 DQb (io) "Synchronous Data Inputs/Outputs", E1 DQc (io) "Synchronous Data Inputs/Outputs", E2 DQc (io) "Synchronous Data Inputs/Outputs", E10 DQb (io) "Synchronous Data Inputs/Outputs", E11 DQb (io) "Synchronous Data Inputs/Outputs", F1 DQc (io) "Synchronous Data Inputs/Outputs", F2 DQc (io) "Synchronous Data Inputs/Outputs", F10 DQb (io) "Synchronous Data Inputs/Outputs", F11 DQb (io) "Synchronous Data Inputs/Outputs", G1 DQc (io) "Synchronous Data Inputs/Outputs", G2 DQc (io) "Synchronous Data Inputs/Outputs", G10 DQb (io) "Synchronous Data Inputs/Outputs", G11 DQb (io) "Synchronous Data Inputs/Outputs", H11 ZZ (in) "Asynchronous Power Sleep Mode", J1 DQd (io) "Synchronous Data Inputs/Outputs", J2 DQd (io) "Synchronous Data Inputs/Outputs", J10 DQa (io) "Synchronous Data Inputs/Outputs", J11 DQa (io) "Synchronous Data Inputs/Outputs", K1 DQd (io) "Synchronous Data Inputs/Outputs", K2 DQd (io) "Synchronous Data Inputs/Outputs", K10 DQa (io) "Synchronous Data Inputs/Outputs", K11 DQa (io) "Synchronous Data Inputs/Outputs", L1 DQd (io) "Synchronous Data Inputs/Outputs", L2 DQd (io) "Synchronous Data Inputs/Outputs", L10 DQa (io) "Synchronous Data Inputs/Outputs", L11 DQa (io) "Synchronous Data Inputs/Outputs", M1 DQd (io) "Synchronous Data Inputs/Outputs", M2 DQd (io) "Synchronous Data Inputs/Outputs", M10 DQa (io) "Synchronous Data Inputs/Outputs", M11 DQa (io) "Synchronous Data Inputs/Outputs", P3 A (in) "Synchronous Address Inputs", P4 A (in) "Synchronous Address Inputs", P5 TDI (in) "JTAG Pins", P6 A1 (in) "Synchronous Burst Address Inputs", P7 TDO (out) "JTAG Pins", P8 A (in) "Synchronous Address Inputs", P9 A (in) "Synchronous Address Inputs", P10 A (in) "Synchronous Address Inputs", R1 MODE (in) "Burst Sequence Selection", R3 A (in) "Synchronous Address Inputs", R4 A (in) "Synchronous Address Inputs", R5 TMS (in) "JTAG Pins", R6 A0 (in) "Synchronous Burst Address Inputs", R7 TCK (in) "JTAG Pins", R8 A (in) "Synchronous Address Inputs", R9 A (in) "Synchronous Address Inputs", R10 A (in) "Synchronous Address Inputs", R11 A (in) "Synchronous Address Inputs"
part B pins: C3 VDDQ (power) "I/O Power Supply", C4 VSS (power) "Ground", C5 VSS (power) "Ground", C6 VSS (power) "Ground", C7 VSS (power) "Ground", C8 VSS (power) "Ground", C9 VDDQ (power) "I/O Power Supply", D3 VDDQ (power) "I/O Power Supply", D4 VDD (power) "Power Supply", D5 VSS (power) "Ground", D6 VSS (power) "Ground", D7 VSS (power) "Ground", D8 VDD (power) "Power Supply", D9 VDDQ (power) "I/O Power Supply", E3 VDDQ (power) "I/O Power Supply", E4 VDD (power) "Power Supply", E5 VSS (power) "Ground", E6 VSS (power) "Ground", E7 VSS (power) "Ground", E8 VDD (power) "Power Supply", E9 VDDQ (power) "I/O Power Supply", F3 VDDQ (power) "I/O Power Supply", F4 VDD (power) "Power Supply", F5 VSS (power) "Ground", F6 VSS (power) "Ground", F7 VSS (power) "Ground", F8 VDD (power) "Power Supply", F9 VDDQ (power) "I/O Power Supply", G3 VDDQ (power) "I/O Power Supply", G4 VDD (power) "Power Supply", G5 VSS (power) "Ground", G6 VSS (power) "Ground", G7 VSS (power) "Ground", G8 VDD (power) "Power Supply", G9 VDDQ (power) "I/O Power Supply", H4 VDD (power) "Power Supply", H5 VSS (power) "Ground", H6 VSS (power) "Ground", H7 VSS (power) "Ground", H8 VDD (power) "Power Supply", J3 VDDQ (power) "I/O Power Supply", J4 VDD (power) "Power Supply", J5 VSS (power) "Ground", J6 VSS (power) "Ground", J7 VSS (power) "Ground", J8 VDD (power) "Power Supply", J9 VDDQ (power) "I/O Power Supply", K3 VDDQ (power) "I/O Power Supply", K4 VDD (power) "Power Supply", K5 VSS (power) "Ground", K6 VSS (power) "Ground", K7 VSS (power) "Ground", K8 VDD (power) "Power Supply", K9 VDDQ (power) "I/O Power Supply", L3 VDDQ (power) "I/O Power Supply", L4 VDD (power) "Power Supply", L5 VSS (power) "Ground", L6 VSS (power) "Ground", L7 VSS (power) "Ground", L8 VDD (power) "Power Supply", L9 VDDQ (power) "I/O Power Supply", M3 VDDQ (power) "I/O Power Supply", M4 VDD (power) "Power Supply", M5 VSS (power) "Ground", M6 VSS (power) "Ground", M7 VSS (power) "Ground", M8 VDD (power) "Power Supply", M9 VDDQ (power) "I/O Power Supply", N3 VDDQ (power) "I/O Power Supply", N4 VSS (power) "Ground", N8 VSS (power) "Ground", N9 VDDQ (power) "I/O Power Supply"
part C pins: A1 NC "No Connect", A9 NC "No Connect", A11 NC "No Connect", B1 NC "No Connect", B9 NC "No Connect", B11 NC "No Connect", C1 NC "No Connect", C2 NC "No Connect", C10 NC "No Connect", C11 NC "No Connect", H1 NC "No Connect", H2 NC "No Connect", H3 NC "No Connect", H9 NC "No Connect", H10 NC "No Connect", N1 NC "No Connect", N2 NC "No Connect", N5 NC "No Connect", N6 NC "No Connect", N7 NC "No Connect", N10 NC "No Connect", N11 NC "No Connect", P1 NC "No Connect", P2 NC "No Connect", P11 NC "No Connect", R2 NC "No Connect"

## IS61NLP12832EC-250B3LI-TR
designator U?
4 M Pipeline 'No Wait' State Bus Synchronous SRAM with ECC, 128 K x 32, -40 to 85 degC, 165-Pin BGA (TF-BGA-165), Pb-Free; Manufacturer: Integrated Silicon Solution Inc (ISSI); PartNumber: IS61NLP12832EC-250B3LI-TR; Density: 4M; Packing: Tape & Reel; Vcc: 3.3 V; VccQ: 2.5 / 3.3 V; DatasheetVersion: Rev. A; PackageVersion: Rev. B, 08/2008; PackageReference: TF-BGA-165; PackageDescription: 165-Pin 13 x 15 mm TF-BGA, Pitch 1 mm; Organization: 128Kx32; RoHS: Pb-Free; Mounting Technology: Surface Mount; ComponentLink1Description: Manufacturer URL; ComponentLink1URL: http://www.issi.com/US/index.shtml; ComponentLink2Description: Datasheet; ComponentLink2URL: http://www.issi.com/WW/pdf/61-64NLP_NVP12832EC-12836EC-25618EC.pdf; ComponentLink3Description: Package Specification; ComponentLink3URL: http://www.issi.com/WW/pdf/61NLP_NVP25636A_51218A.pdf
footprint ISSI-TF-BGA-165-13000X15000DE (BGA, 165-Balls, Body 15x13mm, Pitch 1mm)
part A pins: A2 A (in) "Synchronous Address Inputs", A3 ~{CE} (in) "Synchronous Chip Enable", A4 ~{BWc} (in) "Synchronous Byte Write Inputs", A5 ~{BWb} (in) "Synchronous Byte Write Inputs", A6 ~{CE2} (in) "Synchronous Chip Enable", A7 ~{CKE} (in) "Clock Enable", A8 ADV (in) "Synchronous Advance/Load", A10 A (in) "Synchronous Address Inputs", B2 A (in) "Synchronous Address Inputs", B3 CE2 (in) "Synchronous Chip Enable", B4 ~{BWd} (in) "Synchronous Byte Write Inputs", B5 ~{BWa} (in) "Synchronous Byte Write Inputs", B6 CLK (in) "Synchronous Clock", B7 ~{WE} (in) "Synchronous Byte Write Enable", B8 ~{OE} (in) "Asynchronous Output Enable", B10 A (in) "Synchronous Address Inputs", D1 DQc (io) "Synchronous Data Inputs/Outputs", D2 DQc (io) "Synchronous Data Inputs/Outputs", D10 DQb (io) "Synchronous Data Inputs/Outputs", D11 DQb (io) "Synchronous Data Inputs/Outputs", E1 DQc (io) "Synchronous Data Inputs/Outputs", E2 DQc (io) "Synchronous Data Inputs/Outputs", E10 DQb (io) "Synchronous Data Inputs/Outputs", E11 DQb (io) "Synchronous Data Inputs/Outputs", F1 DQc (io) "Synchronous Data Inputs/Outputs", F2 DQc (io) "Synchronous Data Inputs/Outputs", F10 DQb (io) "Synchronous Data Inputs/Outputs", F11 DQb (io) "Synchronous Data Inputs/Outputs", G1 DQc (io) "Synchronous Data Inputs/Outputs", G2 DQc (io) "Synchronous Data Inputs/Outputs", G10 DQb (io) "Synchronous Data Inputs/Outputs", G11 DQb (io) "Synchronous Data Inputs/Outputs", H11 ZZ (in) "Asynchronous Power Sleep Mode", J1 DQd (io) "Synchronous Data Inputs/Outputs", J2 DQd (io) "Synchronous Data Inputs/Outputs", J10 DQa (io) "Synchronous Data Inputs/Outputs", J11 DQa (io) "Synchronous Data Inputs/Outputs", K1 DQd (io) "Synchronous Data Inputs/Outputs", K2 DQd (io) "Synchronous Data Inputs/Outputs", K10 DQa (io) "Synchronous Data Inputs/Outputs", K11 DQa (io) "Synchronous Data Inputs/Outputs", L1 DQd (io) "Synchronous Data Inputs/Outputs", L2 DQd (io) "Synchronous Data Inputs/Outputs", L10 DQa (io) "Synchronous Data Inputs/Outputs", L11 DQa (io) "Synchronous Data Inputs/Outputs", M1 DQd (io) "Synchronous Data Inputs/Outputs", M2 DQd (io) "Synchronous Data Inputs/Outputs", M10 DQa (io) "Synchronous Data Inputs/Outputs", M11 DQa (io) "Synchronous Data Inputs/Outputs", P3 A (in) "Synchronous Address Inputs", P4 A (in) "Synchronous Address Inputs", P5 TDI (in) "JTAG Pins", P6 A1 (in) "Synchronous Burst Address Inputs", P7 TDO (out) "JTAG Pins", P8 A (in) "Synchronous Address Inputs", P9 A (in) "Synchronous Address Inputs", P10 A (in) "Synchronous Address Inputs", R1 MODE (in) "Burst Sequence Selection", R3 A (in) "Synchronous Address Inputs", R4 A (in) "Synchronous Address Inputs", R5 TMS (in) "JTAG Pins", R6 A0 (in) "Synchronous Burst Address Inputs", R7 TCK (in) "JTAG Pins", R8 A (in) "Synchronous Address Inputs", R9 A (in) "Synchronous Address Inputs", R10 A (in) "Synchronous Address Inputs", R11 A (in) "Synchronous Address Inputs"
part B pins: C3 VDDQ (power) "I/O Power Supply", C4 VSS (power) "Ground", C5 VSS (power) "Ground", C6 VSS (power) "Ground", C7 VSS (power) "Ground", C8 VSS (power) "Ground", C9 VDDQ (power) "I/O Power Supply", D3 VDDQ (power) "I/O Power Supply", D4 VDD (power) "Power Supply", D5 VSS (power) "Ground", D6 VSS (power) "Ground", D7 VSS (power) "Ground", D8 VDD (power) "Power Supply", D9 VDDQ (power) "I/O Power Supply", E3 VDDQ (power) "I/O Power Supply", E4 VDD (power) "Power Supply", E5 VSS (power) "Ground", E6 VSS (power) "Ground", E7 VSS (power) "Ground", E8 VDD (power) "Power Supply", E9 VDDQ (power) "I/O Power Supply", F3 VDDQ (power) "I/O Power Supply", F4 VDD (power) "Power Supply", F5 VSS (power) "Ground", F6 VSS (power) "Ground", F7 VSS (power) "Ground", F8 VDD (power) "Power Supply", F9 VDDQ (power) "I/O Power Supply", G3 VDDQ (power) "I/O Power Supply", G4 VDD (power) "Power Supply", G5 VSS (power) "Ground", G6 VSS (power) "Ground", G7 VSS (power) "Ground", G8 VDD (power) "Power Supply", G9 VDDQ (power) "I/O Power Supply", H4 VDD (power) "Power Supply", H5 VSS (power) "Ground", H6 VSS (power) "Ground", H7 VSS (power) "Ground", H8 VDD (power) "Power Supply", J3 VDDQ (power) "I/O Power Supply", J4 VDD (power) "Power Supply", J5 VSS (power) "Ground", J6 VSS (power) "Ground", J7 VSS (power) "Ground", J8 VDD (power) "Power Supply", J9 VDDQ (power) "I/O Power Supply", K3 VDDQ (power) "I/O Power Supply", K4 VDD (power) "Power Supply", K5 VSS (power) "Ground", K6 VSS (power) "Ground", K7 VSS (power) "Ground", K8 VDD (power) "Power Supply", K9 VDDQ (power) "I/O Power Supply", L3 VDDQ (power) "I/O Power Supply", L4 VDD (power) "Power Supply", L5 VSS (power) "Ground", L6 VSS (power) "Ground", L7 VSS (power) "Ground", L8 VDD (power) "Power Supply", L9 VDDQ (power) "I/O Power Supply", M3 VDDQ (power) "I/O Power Supply", M4 VDD (power) "Power Supply", M5 VSS (power) "Ground", M6 VSS (power) "Ground", M7 VSS (power) "Ground", M8 VDD (power) "Power Supply", M9 VDDQ (power) "I/O Power Supply", N3 VDDQ (power) "I/O Power Supply", N4 VSS (power) "Ground", N8 VSS (power) "Ground", N9 VDDQ (power) "I/O Power Supply"
part C pins: A1 NC "No Connect", A9 NC "No Connect", A11 NC "No Connect", B1 NC "No Connect", B9 NC "No Connect", B11 NC "No Connect", C1 NC "No Connect", C2 NC "No Connect", C10 NC "No Connect", C11 NC "No Connect", H1 NC "No Connect", H2 NC "No Connect", H3 NC "No Connect", H9 NC "No Connect", H10 NC "No Connect", N1 NC "No Connect", N2 NC "No Connect", N5 NC "No Connect", N6 NC "No Connect", N7 NC "No Connect", N10 NC "No Connect", N11 NC "No Connect", P1 NC "No Connect", P2 NC "No Connect", P11 NC "No Connect", R2 NC "No Connect"

## IS61NLP12832EC-250TQ
designator U?
4 M Pipeline 'No Wait' State Bus Synchronous SRAM with ECC, 128 K x 32, 0 to 70 degC, 100-Pin QFP (TQFP-100); Manufacturer: Integrated Silicon Solution Inc (ISSI); PartNumber: IS61NLP12832EC-250TQ; Density: 4M; Packing: Tray / Tube; Vcc: 3.3 V; VccQ: 2.5 / 3.3 V; DatasheetVersion: Rev. A; PackageVersion: Rev. F, 09/2009; PackageReference: TQFP-100; PackageDescription: 100-Pin 20 x 14 mm LQFP, Pitch 0.65 mm; Organization: 128Kx32; Mounting Technology: Surface Mount; ComponentLink1Description: Manufacturer URL; ComponentLink1URL: http://www.issi.com/US/index.shtml; ComponentLink2Description: Datasheet; ComponentLink2URL: http://www.issi.com/WW/pdf/61-64NLP_NVP12832EC-12836EC-25618EC.pdf; ComponentLink3Description: Package Specification; ComponentLink3URL: http://www.issi.com/WW/pdf/61VPS_LPS25636A_51218A.pdf
footprint ISSI-TQFP-100-20000X14000DE_N (QFP, 100-Leads, Body 20x14mm, Pitch 0.65mm, IPC Medium Density)
part A pins: 2 DQc (io) "Data I/O", 3 DQc (io) "Data I/O", 6 DQc (io) "Data I/O", 7 DQc (io) "Data I/O", 8 DQc (io) "Data I/O", 9 DQc (io) "Data I/O", 12 DQc (io) "Data I/O", 13 DQc (io) "Data I/O", 18 DQd (io) "Data I/O", 19 DQd (io) "Data I/O", 22 DQd (io) "Data I/O", 23 DQd (io) "Data I/O", 24 DQd (io) "Data I/O", 25 DQd (io) "Data I/O", 28 DQd (io) "Data I/O", 29 DQd (io) "Data I/O", 31 MODE (in) "Burst Sequence Selection", 32 A (in) "Synchronous Address Input", 33 A (in) "Synchronous Address Input", 34 A (in) "Synchronous Address Input", 35 A (in) "Synchronous Address Input", 36 A1 (in) "Synchronous Burst Address Input", 37 A0 (in) "Synchronous Burst Address Input", 44 A (in) "Synchronous Address Input", 45 A (in) "Synchronous Address Input", 46 A (in) "Synchronous Address Input", 47 A (in) "Synchronous Address Input", 48 A (in) "Synchronous Address Input", 49 A (in) "Synchronous Address Input", 50 A (in) "Synchronous Address Input", 52 DQa (io) "Data I/O", 53 DQa (io) "Data I/O", 56 DQa (io) "Data I/O", 57 DQa (io) "Data I/O", 58 DQa (io) "Data I/O", 59 DQa (io) "Data I/O", 62 DQa (io) "Data I/O", 63 DQa (io) "Data I/O", 64 ZZ (in) "Power Sleep Mode", 68 DQb (io) "Data I/O", 69 DQb (io) "Data I/O", 72 DQb (io) "Data I/O", 73 DQb (io) "Data I/O", 74 DQb (io) "Data I/O", 75 DQb (io) "Data I/O", 78 DQb (io) "Data I/O", 79 DQb (io) "Data I/O", 81 A (in) "Synchronous Address Input", 82 A (in) "Synchronous Address Input", 85 ADV (in) "Synchronous Burst Address Advance/Load", 86 ~{OE} (in) "Output Enable", 87 ~{CKE} (in) "Clock Enable", 88 ~{WE} (in) "Synchronous Read/Write Control Input", 89 CLK (in) "Synchronous Clock", 92 ~{CE2} (in) "Synchronous Chip Enable", 93 ~{BWa} (in) "Synchronous Byte Write Input", 94 ~{BWb} (in) "Synchronous Byte Write Input", 95 ~{BWc} (in) "Synchronous Byte Write Input", 96 ~{BWd} (in) "Synchronous Byte Write Input", 97 CE2 (in) "Synchronous Chip Enable", 98 ~{CE} (in) "Synchronous Chip Enable", 99 A (in) "Synchronous Address Input", 100 A (in) "Synchronous Address Input"
part B pins: 4 VDDQ (power) "I/O Power Supply", 5 VSS (power) "Ground", 10 VSS (power) "Ground", 11 VDDQ (power) "I/O Power Supply", 15 VDD (power) "Power Supply", 17 VSS (power) "Ground", 20 VDDQ (power) "I/O Power Supply", 21 VSS (power) "Ground", 26 VSS (power) "Ground", 27 VDDQ (power) "I/O Power Supply", 40 VSS (power) "Ground", 41 VDD (power) "Power Supply", 54 VDDQ (power) "I/O Power Supply", 55 VSS (power) "Ground", 60 VSS (power) "Ground", 61 VDDQ (power) "I/O Power Supply", 65 VDD (power) "Power Supply", 67 VSS (power) "Ground", 70 VDDQ (power) "I/O Power Supply", 71 VSS (power) "Ground", 76 VSS (power) "Ground", 77 VDDQ (power) "I/O Power Supply", 90 VSS (power) "Ground", 91 VDD (power) "Power Supply"
part C pins: 1 NC "No Connect", 14 NC "No Connect", 16 NC "No Connect", 30 NC "No Connect", 38 NC "No Connect", 39 NC "No Connect", 42 NC "No Connect", 43 NC "No Connect", 51 NC "No Connect", 66 NC "No Connect", 80 NC "No Connect", 83 NC "No Connect", 84 NC "No Connect"

## IS61NLP12832EC-250TQ-TR
designator U?
4 M Pipeline 'No Wait' State Bus Synchronous SRAM with ECC, 128 K x 32, 0 to 70 degC, 100-Pin QFP (TQFP-100); Manufacturer: Integrated Silicon Solution Inc (ISSI); PartNumber: IS61NLP12832EC-250TQ-TR; Density: 4M; Packing: Tape & Reel; Vcc: 3.3 V; VccQ: 2.5 / 3.3 V; DatasheetVersion: Rev. A; PackageVersion: Rev. F, 09/2009; PackageReference: TQFP-100; PackageDescription: 100-Pin 20 x 14 mm LQFP, Pitch 0.65 mm; Organization: 128Kx32; Mounting Technology: Surface Mount; ComponentLink1Description: Manufacturer URL; ComponentLink1URL: http://www.issi.com/US/index.shtml; ComponentLink2Description: Datasheet; ComponentLink2URL: http://www.issi.com/WW/pdf/61-64NLP_NVP12832EC-12836EC-25618EC.pdf; ComponentLink3Description: Package Specification; ComponentLink3URL: http://www.issi.com/WW/pdf/61VPS_LPS25636A_51218A.pdf
footprint ISSI-TQFP-100-20000X14000DE_N (QFP, 100-Leads, Body 20x14mm, Pitch 0.65mm, IPC Medium Density)
part A pins: 2 DQc (io) "Data I/O", 3 DQc (io) "Data I/O", 6 DQc (io) "Data I/O", 7 DQc (io) "Data I/O", 8 DQc (io) "Data I/O", 9 DQc (io) "Data I/O", 12 DQc (io) "Data I/O", 13 DQc (io) "Data I/O", 18 DQd (io) "Data I/O", 19 DQd (io) "Data I/O", 22 DQd (io) "Data I/O", 23 DQd (io) "Data I/O", 24 DQd (io) "Data I/O", 25 DQd (io) "Data I/O", 28 DQd (io) "Data I/O", 29 DQd (io) "Data I/O", 31 MODE (in) "Burst Sequence Selection", 32 A (in) "Synchronous Address Input", 33 A (in) "Synchronous Address Input", 34 A (in) "Synchronous Address Input", 35 A (in) "Synchronous Address Input", 36 A1 (in) "Synchronous Burst Address Input", 37 A0 (in) "Synchronous Burst Address Input", 44 A (in) "Synchronous Address Input", 45 A (in) "Synchronous Address Input", 46 A (in) "Synchronous Address Input", 47 A (in) "Synchronous Address Input", 48 A (in) "Synchronous Address Input", 49 A (in) "Synchronous Address Input", 50 A (in) "Synchronous Address Input", 52 DQa (io) "Data I/O", 53 DQa (io) "Data I/O", 56 DQa (io) "Data I/O", 57 DQa (io) "Data I/O", 58 DQa (io) "Data I/O", 59 DQa (io) "Data I/O", 62 DQa (io) "Data I/O", 63 DQa (io) "Data I/O", 64 ZZ (in) "Power Sleep Mode", 68 DQb (io) "Data I/O", 69 DQb (io) "Data I/O", 72 DQb (io) "Data I/O", 73 DQb (io) "Data I/O", 74 DQb (io) "Data I/O", 75 DQb (io) "Data I/O", 78 DQb (io) "Data I/O", 79 DQb (io) "Data I/O", 81 A (in) "Synchronous Address Input", 82 A (in) "Synchronous Address Input", 85 ADV (in) "Synchronous Burst Address Advance/Load", 86 ~{OE} (in) "Output Enable", 87 ~{CKE} (in) "Clock Enable", 88 ~{WE} (in) "Synchronous Read/Write Control Input", 89 CLK (in) "Synchronous Clock", 92 ~{CE2} (in) "Synchronous Chip Enable", 93 ~{BWa} (in) "Synchronous Byte Write Input", 94 ~{BWb} (in) "Synchronous Byte Write Input", 95 ~{BWc} (in) "Synchronous Byte Write Input", 96 ~{BWd} (in) "Synchronous Byte Write Input", 97 CE2 (in) "Synchronous Chip Enable", 98 ~{CE} (in) "Synchronous Chip Enable", 99 A (in) "Synchronous Address Input", 100 A (in) "Synchronous Address Input"
part B pins: 4 VDDQ (power) "I/O Power Supply", 5 VSS (power) "Ground", 10 VSS (power) "Ground", 11 VDDQ (power) "I/O Power Supply", 15 VDD (power) "Power Supply", 17 VSS (power) "Ground", 20 VDDQ (power) "I/O Power Supply", 21 VSS (power) "Ground", 26 VSS (power) "Ground", 27 VDDQ (power) "I/O Power Supply", 40 VSS (power) "Ground", 41 VDD (power) "Power Supply", 54 VDDQ (power) "I/O Power Supply", 55 VSS (power) "Ground", 60 VSS (power) "Ground", 61 VDDQ (power) "I/O Power Supply", 65 VDD (power) "Power Supply", 67 VSS (power) "Ground", 70 VDDQ (power) "I/O Power Supply", 71 VSS (power) "Ground", 76 VSS (power) "Ground", 77 VDDQ (power) "I/O Power Supply", 90 VSS (power) "Ground", 91 VDD (power) "Power Supply"
part C pins: 1 NC "No Connect", 14 NC "No Connect", 16 NC "No Connect", 30 NC "No Connect", 38 NC "No Connect", 39 NC "No Connect", 42 NC "No Connect", 43 NC "No Connect", 51 NC "No Connect", 66 NC "No Connect", 80 NC "No Connect", 83 NC "No Connect", 84 NC "No Connect"